# Altium schematic symbol library Schematic_Library.SchLib: 30 symbols
Pins are listed as number, name and electrical type; pins without a type are passive.

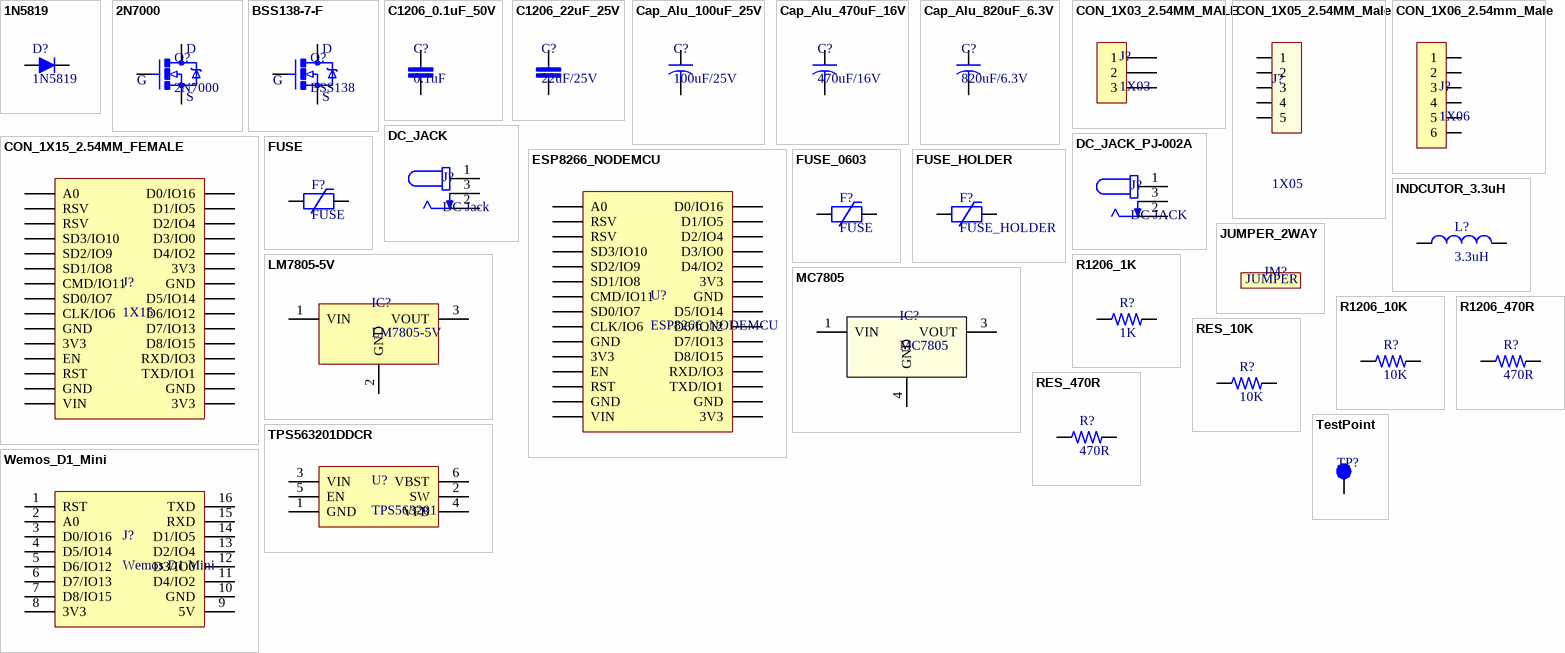
[diagram p0: symbols 1N5819 to Wemos_D1_Mini]

## 1N5819
designator D?
DIODE SCHOTTKY 40V 1A SOD123; Manufacturer 1: Diodes; Manufacturer Part Number 1: 1N5819HW-7-F; Forward Voltage: 450mV; Peak Reverse Current: 50uA; Element Configuration: Single; Max Forward Surge Current (Ifsm): 25A; Max Power Dissipation: 450mW; Polarity: Standard; Capacitance: 110pF; Supplier 1: Digi-Key; Supplier Part Number 1: 1N5819HW-FDICT-ND; Description 1: DIODE SCHOTTKY 40V 1A SOD123; Stock 1: 275973; Pricing 1: 1=0.45, 10=0.333, 100=0.1581, 500=0.12896, 1000=0.09568 (USD); Case/Package: SOD-123-2; Number of Pins: 2; Weight: 0.000353oz; Contact Plating: Tin,Matte; Min Operating Temperature: -65°C; Max Operating Temperature: 125°C; Forward Current: 1A; Max Repetitive Reverse Voltage (Vrrm): 40V; Packaging: Tape and Reel; Peak Non-Repetitive Surge Current: 25A; Package Quantity: 3000; Average Rectified Current: 1A; Termination: SMD/SMT; Voltage Rating (DC): 40V; Current Rating: 1A; Output Current: 1A; Max Reverse Voltage (DC): 40V; Length: 2.85mm; Height: 1.25mm; Width: 1.7mm; Radiation Hardening: No; REACH SVHC: No SVHC; Lead Free: Lead Free; ComponentLink1URL: http://www.diodes.com/datasheets/ds30217.pdf?src-supplier=Future+Electronics; ComponentLink1Description: http://www.diodes.com/datasheets/ds30217.pdf?src-supplier=Future+Electronics; ComponentLink2URL: https://www.diodes.com/assets/Datasheets/ds30217.pdf?src-supplier=Digi-Key; ComponentLink2Description: https://www.diodes.com/assets/Datasheets/ds30217.pdf?src-supplier=Digi-Key; ComponentLink3URL: http://www.farnell.com/datasheets/2238341.pdf?src-supplier=Element14; ComponentLink3Description: http://www.farnell.com/datasheets/2238341.pdf?src-supplier=Element14; ComponentLink4URL: http://www.jameco.com/Jameco/Products/ProdDS/1538419.pdf?src-supplier=Jameco; ComponentLink4Description: http://www.jameco.com/Jameco/Products/ProdDS/1538419.pdf?src-supplier=Jameco; ComponentLink5URL: http://www.farnell.com/datasheets/2238341.pdf?src-supplier=Avnet; ComponentLink5Description: http://www.farnell.com/datasheets/2238341.pdf?src-supplier=Avnet; ComponentLink6URL: http://www.farnell.com/datasheets/2238341.pdf?src-supplier=Avnet+Europe; ComponentLink6Description: http://www.farnell.com/datasheets/2238341.pdf?src-supplier=Avnet+Europe
footprint SOD-123
pins: 1 A, 2 C

## 2N7000
designator Q?
N-Channel 60V 200mA (Ta) 400mW (Ta) Through Hole TO-92-3; Manufacturer: ON Semiconductor / Fairchild; Drain to Source Resistance: 1.2R; Gate to Source Voltage (Vgs): 20V; Element Configuration: Single; Input Capacitance: 50pF; Number of Elements: 1; Rds On Max: 5R; Threshold Voltage: 2.1V; Turn-Off Delay Time: 10ns; Supplier 1: Digi-Key; Supplier Part Number 1: 2N7000FS-ND; Manufacturer Part Number: 2N7000; Stock 1: 10060; Pricing 1: 1=0.36, 10=0.29, 100=0.1663, 500=0.154, 1000=0.10472, 2500=0.10041, 5000=0.0924 (USD); Mount: Through Hole; Case/Package: TO-92; Number of Pins: 3; Weight: 0.201g; Contact Plating: Copper,Tin,Silver; Min Operating Temperature: -55°C; Max Operating Temperature: 150°C; Packaging: Bulk; Continuous Drain Current (ID): 200mA; Voltage Rating (DC): 60V; Current Rating: 200mA; Max Power Dissipation: 400mW; Package Quantity: 2000; Drain to Source Breakdown Voltage: 60V; Power Dissipation: 400mW; Drain to Source Voltage (Vdss): 60V; Nominal Vgs: 2.1V; On-State Resistance: 5R; Number of Channels: 1; Length: 5.2mm; Height: 5.33mm; Width: 4.19mm; Radiation Hardening: No; Lead Free: Lead Free; REACH SVHC: No SVHC; ComponentLink1URL: http://www.farnell.com/datasheets/2299562.pdf?src-supplier=Element14; ComponentLink1Description: http://www.farnell.com/datasheets/2299562.pdf?src-supplier=Element14; ComponentLink2URL: https://www.distrelec.biz/Web/Downloads/_t/ds/2n7000_eng_tds.pdf?mime=application%2Fpdf&src-supplier=Distrelec; ComponentLink2Description: https://www.distrelec.biz/Web/Downloads/_t/ds/2n7000_eng_tds.pdf?mime=application%2Fpdf&src-supplier=Distrelec; ComponentLink3URL: http://www.fairchildsemi.com/ds/ND/NDS7002A.pdf?src-supplier=Avnet+Europe; ComponentLink3Description: http://www.fairchildsemi.com/ds/ND/NDS7002A.pdf?src-supplier=Avnet+Europe; ComponentLink4URL: https://www.onsemi.com/pub/Collateral/NDS7002A-D.PDF?src-supplier=Digi-Key; ComponentLink4Description: https://www.onsemi.com/pub/Collateral/NDS7002A-D.PDF?src-supplier=Digi-Key; ComponentLink5URL: http://www.farnell.com/datasheets/2299562.pdf?src-supplier=Newark; ComponentLink5Description: http://www.farnell.com/datasheets/2299562.pdf?src-supplier=Newark; ComponentLink6URL: http://www.jameco.com/Jameco/Products/ProdDS/783594.pdf?src-supplier=Jameco; ComponentLink6Description: http://www.jameco.com/Jameco/Products/ProdDS/783594.pdf?src-supplier=Jameco; ComponentLink7URL: http://www.rapidonline.com/pdf/47-0180.pdf?src-supplier=Rapid+Electronics; ComponentLink7Description: http://www.rapidonline.com/pdf/47-0180.pdf?src-supplier=Rapid+Electronics
footprint TO-92 (TO, Flat Index; 3 In-Line, Axial Leads; Body Dia. 4.6mm; Leads 0.48 x 0.41 mm (max))
pins: 1 S, 2 G, 3 D

## BSS138-7-F
designator Q?, comment BSS138
N-Channel MOSFET 50V 200mA (Ta) 300mW (Ta) Surface Mount SOT-23-3; Manufacturer: Diodes; Manufacturer Part Number: BSS138-7-F; Nominal Vgs: 1.2V; Gate to Source Voltage (Vgs): 20V; Rds On Max: 3.5R; Input Capacitance: 50pF; Number of Elements: 1; Turn-Off Delay Time: 20ns; Element Configuration: Single; Fall Time: 25ns; Rise Time: 10ns; Supplier 1: Digi-Key; Supplier Part Number 1: BSS138-FDICT-ND; Stock 1: 1498304; Pricing 1: 1=0.2, 10=0.168, 100=0.0686, 500=0.05726, 1000=0.03978 (USD); Mount: Surface Mount; Case/Package: SOT-23; Number of Pins: 3; Weight: 0.000282oz; Contact Plating: Tin,Matte; Min Operating Temperature: -55°C; Max Operating Temperature: 150°C; Continuous Drain Current (ID): 200mA; Max Power Dissipation: 300mW; Drain to Source Voltage (Vdss): 50V; Packaging: Tape and Reel; Package Quantity: 3000; Drain to Source Breakdown Voltage: 50V; Drain to Source Resistance: 3.5R; Power Dissipation: 300mW; Turn-On Delay Time: 20ns; Threshold Voltage: 1.2V; Number of Channels: 1; Voltage Rating (DC): 50V; Current Rating: 200mA; On-State Resistance: 3.5R; Voltage: 50V; Length: 2.9mm; Height: 1mm; Width: 1.3mm; REACH SVHC: No SVHC; Lead Free: Lead Free; ComponentLink1URL: http://www.diodes.com/datasheets/BSS138.pdf?src-supplier=Avnet; ComponentLink1Description: http://www.diodes.com/datasheets/BSS138.pdf?src-supplier=Avnet; ComponentLink2URL: http://www.farnell.com/datasheets/1915619.pdf?src-supplier=Element14; ComponentLink2Description: http://www.farnell.com/datasheets/1915619.pdf?src-supplier=Element14; ComponentLink3URL: http://www.diodes.com/datasheets/BSS138.pdf?src-supplier=Avnet+Europe; ComponentLink3Description: http://www.diodes.com/datasheets/BSS138.pdf?src-supplier=Avnet+Europe; ComponentLink4URL: https://www.diodes.com/assets/Datasheets/ds30144.pdf?src-supplier=Digi-Key; ComponentLink4Description: https://www.diodes.com/assets/Datasheets/ds30144.pdf?src-supplier=Digi-Key; ComponentLink5URL: http://www.diodes.com/_files/datasheets/ds30144.pdf?src-supplier=Future+Electronics; ComponentLink5Description: http://www.diodes.com/_files/datasheets/ds30144.pdf?src-supplier=Future+Electronics
footprint SOT23-3 (SOT23, 3-Leads, Body 2.90x2.45mm, Pitch 0.95mm, IPC Medium Density)
pins: 1 G, 2 S, 3 D

## C1206_0.1uF_50V
designator C?, comment 0.1uF
0.1µF ±10% 50V Ceramic Capacitor X7R 1206 (3216 Metric); Manufacturer: Samsung; Manufacturer Part Number: CL31B104KBCNFNC; Capacitance: 100nF; Supplier 1: Digi-Key; Stock 1: 134564; Pricing 1: 1=0.12, 10=0.086, 100=0.0403, 500=0.02824, 1000=0.02338 (USD); Mount: Surface Mount; Case/Package: 1206; Case Code (Metric): 3216; Case Code (Imperial): 1206; Min Operating Temperature: -55°C; Max Operating Temperature: 125°C; Package Quantity: 1; Packaging: Tape and Reel; Tolerance: 10%; Voltage Rating: 50V; Dielectric: X7R; Length: 0.126inch; Height: 0.85mm; Width: 0.063inch; Thickness: 0.037inch; Depth: 1.6mm; Radiation Hardening: No; ComponentLink1URL: https://media.digikey.com/pdf/Data%20Sheets/Samsung%20PDFs/CL_Series_MLCC_ds.pdf?src-supplier=Digi-Key; ComponentLink1Description: https://media.digikey.com/pdf/Data%20Sheets/Samsung%20PDFs/CL_Series_MLCC_ds.pdf?src-supplier=Digi-Key; Supplier Part Number 1: 1276-2744-1-ND
footprint C1206 (Chip Capacitor, 2-Leads, Body 3.20x1.60mm, IPC Medium Density)
pins: 1, 2

## C1206_22uF_25V
designator C?, comment 22uF/25V
Cap Ceramic 22uF 25V X5R 10% SMD 1206 85C Embossed T/R; Manufacturer: Samsung; Manufacturer Part Number: CL31A226KAHNNNE; Supplier 1: Digi-Key; Supplier Part Number 1: 1276-3047-1-ND; Stock 1: 1010193; Pricing 1: 1=0.62, 10=0.439, 100=0.289, 500=0.21406, 1000=0.18195 (USD); Mount: Surface Mount; Case/Package: 1206; Case Code (Metric): 3216; Case Code (Imperial): 1206; Material: Ceramic; Contact Plating: Tin; Min Operating Temperature: -55°C; Max Operating Temperature: 85°C; Capacitance: 22uF; Tolerance: 10%; Dielectric: X5R; Package Quantity: 1; Packaging: Tape and Reel; Voltage Rating: 25V; Length: 3.2mm; Height: 1.6mm; Width: 0.063inch; Thickness: 0.071inch; Depth: 1.6mm; Radiation Hardening: No; ComponentLink1URL: https://media.digikey.com/pdf/Data%20Sheets/Samsung%20PDFs/CL_Series_MLCC_ds.pdf?src-supplier=Digi-Key; ComponentLink1Description: https://media.digikey.com/pdf/Data%20Sheets/Samsung%20PDFs/CL_Series_MLCC_ds.pdf?src-supplier=Digi-Key; ComponentLink2URL: https://www.verical.com/server-webapp/html/getDatasheet?partID=359658&src-supplier=Verical; ComponentLink2Description: https://www.verical.com/server-webapp/html/getDatasheet?partID=359658&src-supplier=Verical; ComponentLink3URL: http://www1.futureelectronics.com/doc/SAMSUNG/CL31A226KAHNNNE.pdf?src-supplier=Future+Electronics; ComponentLink3Description: http://www1.futureelectronics.com/doc/SAMSUNG/CL31A226KAHNNNE.pdf?src-supplier=Future+Electronics; ComponentLink4URL: https://produktinfo.conrad.com/datenblaetter/450000-474999/452249-da-01-en-VS_KONDENSATOR_1206.pdf?src-supplier=Conrad; ComponentLink4Description: https://produktinfo.conrad.com/datenblaetter/450000-474999/452249-da-01-en-VS_KONDENSATOR_1206.pdf?src-supplier=Conrad
footprint C1206 (Chip Capacitor, 2-Leads, Body 3.20x1.60mm, IPC Medium Density)
pins: 1, 2

## Cap_Alu_100uF_25V
designator C?, comment 100uF/25V
Aluminum Electrolytic Capacitors - Leaded 25volts 100uF 20%; Manufacturer: KEMET; Manufacturer Part Number: ESK107M025AE3EA; Voltage Rating: 25V; Ripple Current: 200mA; Life (Hours): 2000Hour; Supplier 1: Digi-Key; Supplier Part Number 1: 399-6650-1-ND; Stock 1: 187327; Pricing 1: 1=0.23, 10=0.158, 100=0.08, 500=0.05474, 1000=0.04842 (USD); Mount: Through Hole; Case/Package: Radial; Min Operating Temperature: -40°C; Max Operating Temperature: 85°C; Tolerance: 20%; Package Quantity: 2000; Packaging: Tape and Reel; Capacitance: 100uF; Voltage Rating (DC): 25V; Termination: Radial; Features: General Purpose; Length: 11mm; Lead Pitch: 0.098inch; Height - Seated (Max): 0.492inch; ComponentLink1URL: http://www.mouser.com/ds/2/212/KEM_A4004_ESK-1103206.pdf?src-supplier=Mouser; ComponentLink1Description: http://www.mouser.com/ds/2/212/KEM_A4004_ESK-1103206.pdf?src-supplier=Mouser
footprint Cap_2.5mm_6.3mm
pins: +, -

## Cap_Alu_470uF_16V
designator C?, comment 470uF/16V
470µF 16V 20% Aluminum Electrolytic Capacitors Radial, Can 8000 Hrs @ 105°C; Manufacturer: Rubycon; Manufacturer Part Number: 16ZLH470MEFC8X11.5; Dielectric Material: Aluminium; Capacitance: 470uF; Ripple Current: 945mA; Impedance: 56mR; Life (Hours): 8000Hour; Leakage Current: 3uA; Lead Diameter: 0.6mm; Supplier 1: Digi-Key; Supplier Part Number 1: 1189-1859-ND; Stock 1: 32219; Pricing 1: 1=0.4, 10=0.275, 100=0.165, 500=0.12376, 1000=0.1045, 2500=0.099, 5000=0.0935 (USD); Mount: Through Hole; Case/Package: Radial; Number of Pins: 2; Min Operating Temperature: -40°C; Max Operating Temperature: 105°C; Tolerance: 20%; Termination: Radial; Voltage Rating: 16V; Ripple Current (AC): 945mA; Voltage Rating (DC): 16V; Package Quantity: 2000; Packaging: Bulk; Voltage: 16V; Diameter: 8mm; Height: 11.5mm; Lead Pitch: 3.5mm; Height - Seated (Max): 0.512inch; Radiation Hardening: No; REACH SVHC: No SVHC; ComponentLink1URL: http://www.rubycon.co.jp/en/catalog/e_pdfs/aluminum/Radial_Lead_Alumi_Eng.pdf?src-supplier=Digi-Key; ComponentLink1Description: http://www.rubycon.co.jp/en/catalog/e_pdfs/aluminum/Radial_Lead_Alumi_Eng.pdf?src-supplier=Digi-Key; ComponentLink2URL: http://uk.rs-online.com/webdocs/0e2f/0900766b80e2f602.pdf?src-supplier=RSComponents; ComponentLink2Description: http://uk.rs-online.com/webdocs/0e2f/0900766b80e2f602.pdf?src-supplier=RSComponents; ComponentLink3URL: http://www.farnell.com/datasheets/50911.pdf?src-supplier=Element14; ComponentLink3Description: http://www.farnell.com/datasheets/50911.pdf?src-supplier=Element14
footprint Cap_3.5mm_8mm
pins: +, -

## Cap_Alu_820uF_6.3V
designator C?, comment 820uF/6.3V
820µF 6.3V 20% Aluminum Electrolytic Capacitors Radial, Can  3000 Hrs @ 105°C; Manufacturer: Nichicon; Manufacturer Part Number: UPW0J821MPD1TD; Dielectric Material: Aluminium; Capacitance: 820uF; ESR (Equivalent Series Resistance): 180mR; Ripple Current: 547.5mA; Impedance: 85mR; Life (Hours): 3000Hour; Supplier 1: Digi-Key; Supplier Part Number 1: 493-11737-1-ND; Stock 1: 116799; Pricing 1: 1=0.5, 10=0.354, 100=0.2332, 500=0.17276 (USD); Mount: Through Hole; Case/Package: Radial; Min Operating Temperature: -55°C; Max Operating Temperature: 105°C; Tolerance: 20%; Voltage Rating: 6.3V; Package Quantity: 1000; Packaging: Tape and Reel; Termination: Radial; Voltage Rating (DC): 6.3V; Diameter: 8mm; Height: 15mm; Lead Pitch: 0.138inch; Height - Seated (Max): 0.65inch; REACH SVHC: No SVHC; ComponentLink1URL: http://nichicon-us.com/english/products/pdfs/e-upw.pdf?src-supplier=Digi-Key; ComponentLink1Description: http://nichicon-us.com/english/products/pdfs/e-upw.pdf?src-supplier=Digi-Key
footprint Cap_3.5mm_8mm
pins: +, -

## CON_1X03_2.54MM_MALE
designator J?, comment 1X03
2.54mm (0.1") Pitch SIL Vertical PC Tail Pin Header, 6.1mm mating pin height, gold (hi-temp mould), 3 contacts; Manufacturer: Harwin; Manufacturer Part Number: M20-9990345; Number of Contacts: 3; Current Rating: 3A; Contact Resistance: 25mR; Voltage Rating (AC): 750V; Insulation Resistance: 10GR; Connector Type: Male Pin; Supplier 1: Digi-Key; Supplier Part Number 1: 952-2263-ND; Stock 1: 52459; Pricing 1: 1=0.18, 10=0.165, 100=0.1015, 500=0.084, 1000=0.0735, 5000=0.063, 10000=0.06125 (USD); Mount: Through Hole; Case/Package: SIL; Weight: 0.006138oz; Contact Plating: Gold; Contact Material: Brass,Bronze; Color: Black; Housing Color: Black; Housing Material: Nylon; Min Operating Temperature: -40°C; Max Operating Temperature: 105°C; Number of Rows: 1; Termination: Solder; Package Quantity: 1000; Packaging: Bulk; Max Current Rating: 3A; Number of Positions: 3; Orientation: Straight; Length: 7.62mm; Height: 0.125inch; Width: 0.25inch; Pitch: 2.54mm; Contact Mating Length: 0.24inch; Depth: 2.54mm; Radiation Hardening: No; REACH SVHC: No SVHC; ComponentLink1URL: http://uk.rs-online.com/webdocs/1406/0900766b8140689e.pdf?src-supplier=RSComponents; ComponentLink1Description: http://uk.rs-online.com/webdocs/1406/0900766b8140689e.pdf?src-supplier=RSComponents; ComponentLink2URL: http://www.harwin.com/include/downloads/drawings/M20-999.PDF?src-supplier=Avnet; ComponentLink2Description: http://www.harwin.com/include/downloads/drawings/M20-999.PDF?src-supplier=Avnet; ComponentLink3URL: http://www.mouser.com/ds/2/181/Harwin_Product_Catalog_page_206-1134556.pdf?src-supplier=Mouser; ComponentLink3Description: http://www.mouser.com/ds/2/181/Harwin_Product_Catalog_page_206-1134556.pdf?src-supplier=Mouser; ComponentLink4URL: https://cdn.harwin.com/pdfs/60page146.pdf?src-supplier=Avnet+Europe; ComponentLink4Description: https://cdn.harwin.com/pdfs/60page146.pdf?src-supplier=Avnet+Europe
footprint CON_1X03_2.54MM_MALE
pins: 1, 2, 3

## CON_1X05_2.54MM_Male
designator J?, comment 1X05
Connector Header Through Hole 5 position 0.100" (2.54mm); Manufacturer: Sullins Connector Solutions; Manufacturer Part Number: PREC005SFAN-RC; Connector Type: Header, Breakaway; Number of Positions: 5; Number of Positions Loaded: All; Style: Board to Board or Cable; Shrouding: Unshrouded; Contact Length - Mating: 0.318" (8.08mm); Contact Length - Post: 0.120" (3.05mm); Overall Contact Length: 0.537" (13.63mm); Material Flammability Rating: UL94 V-0; Current Rating: 3A per Contact; Supplier 1: Digi-Key; RoHS: RoHS Compliant; Category: Connectors, Interconnects; Stock 1: 3185; Pricing 1: 1=0.18, 10=0.165, 100=0.1359, 500=0.10744, 1000=0.09223, 5000=0.08414, 10000=0.0809 (USD); Packaging: Bulk; Part Status: Active; Contact Type: Male Pin; Pitch - Mating: 0.100" (2.54mm); Number of Rows: 1; Row Spacing - Mating: -; Mounting Type: Through Hole; Termination: Solder; Fastening Type: Push-Pull; Insulation Height: 0.098" (2.50mm); Contact Shape: Square; Contact Finish - Mating: Tin; Contact Finish Thickness - Mating: -; Contact Finish - Post: Tin; Contact Material: Brass; Insulation Material: Polybutylene Terephthalate (PBT); Features: -; Operating Temperature: -40°C ~ 105°C; Ingress Protection: -; Insulation Color: Black; Voltage Rating: -; Mated Stacking Heights: -; Contact Finish Thickness - Post: -; Applications: -; ComponentLink1URL: https://media.digikey.com/PDF/Data%20Sheets/Sullins%20PDFs/xRxCzzzSxxN-RC_ST_11635-B.pdf; ComponentLink1Description: https://media.digikey.com/PDF/Data%20Sheets/Sullins%20PDFs/xRxCzzzSxxN-RC_ST_11635-B.pdf; Supplier Part Number 1: S1212EC-05-ND
footprint 1X05_2.54mm_Male
pins: 1, 2, 3, 4, 5

## CON_1X06_2.54mm_Male
designator J?, comment 1X06
Connector Header Through Hole 6 position 0.100" (2.54mm); Manufacturer Part Number: Z-211-0611-0021-001
footprint CON_1X06_2.54MM_MALE
pins: 1, 2, 3, 4, 5, 6

## CON_1X15_2.54MM_FEMALE
designator J?, comment 1X15
15 Position Receptacle Connector  Through Hole 2.54mm; Manufacturer: Samtec; Manufacturer Part Number: SSQ-115-03-T-S; Connector Type: Receptacle,Socket; Number of Positions: 15; Gender: Female; Pitch: 0.1inch; Supplier 1: Digi-Key; Supplier Part Number 1: SAM1206-15-ND; Stock 1: 0; Pricing 1: 1=1.67, 10=1.517, 25=1.424, 50=1.3622, 100=1.3003, 250=1.17648, 500=1.0836 (USD); Mount: Through Hole; Color: Black; Contact Plating: Tin; Contact Material: Bronze; Housing Color: Black; Housing Material: Plastic; Package Quantity: 1; Number of Rows: 1; Packaging: Bulk; Termination: Solder; Number of Contacts: 15; Length: 38.6mm; Height: 8.51mm; Width: 2.41mm; Radiation Hardening: No; Lead Free: Lead Free; ComponentLink1URL: http://suddendocs.samtec.com/prints/ssq-1xx-xx-xxx-x-xx-xxx-xx-x-mkt.pdf?src-supplier=Digi-Key; ComponentLink1Description: http://suddendocs.samtec.com/prints/ssq-1xx-xx-xxx-x-xx-xxx-xx-x-mkt.pdf?src-supplier=Digi-Key
footprint ESP8266_NODEMCU (NodeMCU v2 - Lua based ESP8266 development kit)
pins: 3V3@1 3V3, 3V3@2 3V3, 3V3@3 3V3, A0, CLK CLK/IO6, CMD CMD/IO11, D0 D0/IO16, D1 D1/IO5, D2 D2/IO4, D3 D3/IO0, D4 D4/IO2, D5 D5/IO14, D6 D6/IO12, D7 D7/IO13, D8 D8/IO15, EN, GND@1 GND, GND@2 GND, GND@3 GND, GND@4 GND, RST, RSV@1 RSV, RSV@2 RSV, RXD RXD/IO3, SD0 SD0/IO7, SD1 SD1/IO8, SD2 SD2/IO9, SD3 SD3/IO10, TXD TXD/IO1, VIN

## DC_JACK
designator J?, comment DC Jack
Power Barrel Connector Jack 2.10mm ID (0.083"), 5.50mm OD (0.217") Through Hole, Right Angle; Manufacturer 1: CUI; Manufacturer Part Number 1: PJ-102A; Description 1: CONN PWR JACK 2X5.5MM SOLDER; Gender: Male; Shielding: Unshielded; Current Rating: 2.5A; Voltage Rating: 24V; Insulation Resistance: 50MR; Number of Conductors: 2; Supplier 1: Digi-Key; Supplier Part Number 1: CP-102A-ND; Stock 1: 40890; Pricing 1: 1=0.64, 10=0.6, 25=0.54, 50=0.48, 100=0.46, 250=0.42, 500=0.4, 1000=0.33, 2500=0.3 (USD); Mount: Through Hole; Color: Black; Contact Material: Copper; Contact Plating: Nickel; Housing Color: Black; Housing Material: Thermoplastic; Min Operating Temperature: -25°C; Max Operating Temperature: 85°C; Package Quantity: 280; Termination: Through Hole; Connector Type: Jack; Packaging: Bulk; Contact Gender: Male; Orientation: Horizontal; Diameter: 2.1mm; Lead Free: Lead Free; Flammability Rating: UL94 V-0; ComponentLink1URL: http://www.cui.com/Product/Resource/FuturePDF/PJ-102A.pdf?src-supplier=Future+Electronics; ComponentLink1Description: http://www.cui.com/Product/Resource/FuturePDF/PJ-102A.pdf?src-supplier=Future+Electronics; ComponentLink2URL: http://www.mouser.com/ds/2/670/PJ-102A-524195.pdf?src-supplier=Mouser; ComponentLink2Description: http://www.mouser.com/ds/2/670/PJ-102A-524195.pdf?src-supplier=Mouser; ComponentLink3URL: https://www.cui.com/product/resource/digikeypdf/pj-102a.pdf?src-supplier=Digi-Key; ComponentLink3Description: https://www.cui.com/product/resource/digikeypdf/pj-102a.pdf?src-supplier=Digi-Key
footprint CUI_PJ-102A (Power Barrel Connector Jack 2.10mm ID (0.083"), 5.50mm OD (0.217") Through Hole, Right Angle)
pins: 1, 2, 3

## DC_JACK_PJ-002A
designator J?, comment DC JACK
Power Barrel Connector Jack 2.10mm ID (0.083"), 5.50mm OD (0.217") Through Hole, Right Angle; Manufacturer: CUI; Manufacturer Part Number: PJ-002A; Gender: Male; Shielding: Unshielded; Current Rating: 2.5A; Number of Conductors: 2; Voltage Rating: 24V; Insulation Resistance: 50MR; Supplier 1: Digi-Key; Supplier Part Number 1: CP-002A-ND; Stock 1: 57905; Pricing 1: 1=0.6, 10=0.558, 25=0.5024, 50=0.4464, 100=0.4278, 250=0.3906, 500=0.372, 1000=0.3069, 2500=0.279 (USD); Mount: Through Hole; Color: Black; Contact Material: Copper Alloy,Copper; Contact Plating: Tin,Nickel; Housing Material: Thermoplastic; Housing Color: Black; Min Operating Temperature: -25°C; Max Operating Temperature: 85°C; Connector Type: Jack; Termination: Through Hole; Packaging: Bulk; Package Quantity: 500; Orientation: Horizontal; Contact Gender: Male; Diameter: 2.1mm; Lead Free: Lead Free; Flammability Rating: UL94 V-0
footprint CUI_PJ-002A (Power Barrel Connector Jack 2.10mm ID (0.083"), 5.50mm OD (0.217") Through Hole, Right Angle)
pins: 1, 2, 3

## ESP8266_NODEMCU
designator U?
NodeMCU v2 - Lua based ESP8266 development kit
footprint ESP8266_NODEMCU (NodeMCU v2 - Lua based ESP8266 development kit)
pins: 3V3@1 3V3, 3V3@2 3V3, 3V3@3 3V3, A0, CLK CLK/IO6, CMD CMD/IO11, D0 D0/IO16, D1 D1/IO5, D2 D2/IO4, D3 D3/IO0, D4 D4/IO2, D5 D5/IO14, D6 D6/IO12, D7 D7/IO13, D8 D8/IO15, EN, GND@1 GND, GND@2 GND, GND@3 GND, GND@4 GND, RST, RSV@1 RSV, RSV@2 RSV, RXD RXD/IO3, SD0 SD0/IO7, SD1 SD1/IO8, SD2 SD2/IO9, SD3 SD3/IO10, TXD TXD/IO1, VIN

## FUSE
designator F?
16V 10A 2920 PTC Resettable Fuses RoHS; Manufacturer Part Number: SMD2920P500TF/16
footprint FUSE-SMD_L8.0-W5.4
pins: 1, 2

## FUSE_0603
designator F?, comment FUSE
5A 32V AC 32V DC Fuse Board Mount (Cartridge Style Excluded) Surface Mount 0603 (1608 Metric); Manufacturer: Littelfuse; Manufacturer Part Number: 0467005.NRHF; DC Cold Resistance: 8.9mR; Power Dissipation: 363.5mW; Approvals: UL,CSA; Supplier 1: Digi-Key; Supplier Part Number 1: F5701CT-ND; Stock 1: 1386; Pricing 1: 1=1.2, 5=1.166, 10=1.091, 50=0.9028, 100=0.7524, 250=0.7336, 500=0.62074, 1000=0.54549 (USD); Mount: Surface Mount; Case/Package: 0603; Case Code (Metric): 1608; Case Code (Imperial): 0603; Min Operating Temperature: -55°C; Max Operating Temperature: 90°C; Package Quantity: 5000; Current Rating: 5A; Voltage Rating (AC): 32V; Voltage Rating (DC): 32V; Packaging: Tape and Reel; Composition: Thin Film; Current: 5A; Fuse Type: Board Mount (Cartridge Style Excluded); Length: 1.6mm; Height: 0.012inch; Width: 0.032inch; Depth: 0.81mm; ComponentLink1URL: http://www.littelfuse.com/~/media/electronics/datasheets/fuses/littelfuse_fuse_467_datasheet.pdf.pdf?src-supplier=Digi-Key; ComponentLink1Description: http://www.littelfuse.com/~/media/electronics/datasheets/fuses/littelfuse_fuse_467_datasheet.pdf.pdf?src-supplier=Digi-Key
footprint FUSE_0603
pins: 1, 2

## FUSE_HOLDER
designator F?
Fuse Block 30A 500V 1 Circuit Blade Through Hole; Manufacturer: Keystone Electronics; Manufacturer Part Number: 3557-2; Color: Black; Material: Brass,Tin,Nylon; Current Rating: 20A; Number of Poles: 1; Illumination Type: Illuminated; Fuse Type: Automotive; Supplier 1: Digi-Key; Stock 1: 152265; Pricing 1: 1=1.03, 10=0.904, 25=0.8512, 100=0.8089, 250=0.7732, 500=0.7137, 1000=0.6352, 2500=0.5319, 5000=0.5111 (USD); Mount: Vertical,PCB; Contact Plating: Tin; Contact Material: Brass; Min Operating Temperature: -50°C; Max Operating Temperature: 145°C; Termination: PC Pin; Package Quantity: 1; Orientation: Vertical; Voltage Rating (AC): 500V; Number of Circuits: 1; Voltage: 500V; Fuse Current: 20A; Length: 19.8mm; Depth: 6.8mm; REACH SVHC: No SVHC; Lead Free: Lead Free; Flammability Rating: UL94 V-0; ComponentLink1URL: http://www.keyelco.com/userAssets/file/M60-2p39.pdf?src-supplier=Future+Electronics; ComponentLink1Description: http://www.keyelco.com/userAssets/file/M60-2p39.pdf?src-supplier=Future+Electronics; ComponentLink2URL: http://www.farnell.com/datasheets/1686040.pdf?src-supplier=Element14; ComponentLink2Description: http://www.farnell.com/datasheets/1686040.pdf?src-supplier=Element14; Supplier Part Number 1: 36-3557-2-ND
footprint FUSE_STAND_3557-2
pins: 1, 2 1, 3, 4 2

## INDCUTOR_3.3uH
designator L?, comment 3.3uH
3.3µH Shielded Wirewound Inductor 2.02A 96mOhm Max Nonstandard; Manufacturer: TDK; Manufacturer Part Number: VLCF5020T-3R3N2R0-1; Core Material: Ferrite; Tolerance: 30%; DC Resistance (DCR): 96mR; Test Frequency: 100kHz; Supplier 1: Digi-Key; Supplier Part Number 1: 445-3206-1-ND; Stock 1: 166; Pricing 1: 1=0.97, 10=0.845, 100=0.6038 (USD); Mount: Surface Mount; Case/Package: Nonstandard; Number of Pins: 2; Min Operating Temperature: -40°C; Max Operating Temperature: 105°C; Inductance: 3.3uH; Packaging: Tape and Reel; Inductance Tolerance: 30%; Package Quantity: 500; Current Rating: 2.02A; Saturation Current: 2.02A; Shielding: Shielded; Composition: Wirewound; Max DC Current: 2.02A; Termination: SMD/SMT; RMS Current (Irms): 2.02A; DC Current: 2.02A; Military Standard: Not; Length: 0.197inch; Height: 2mm; Depth: 5.2mm; Width: 0.197inch; Height - Seated (Max): 0.079inch; REACH SVHC: Unknown; Lead Free: Lead Free; ComponentLink1URL: http://www.farnell.com/datasheets/516785.pdf?src-supplier=Element14; ComponentLink1Description: http://www.farnell.com/datasheets/516785.pdf?src-supplier=Element14; ComponentLink2URL: http://www.farnell.com/datasheets/516785.pdf?src-supplier=Farnell; ComponentLink2Description: http://www.farnell.com/datasheets/516785.pdf?src-supplier=Farnell; ComponentLink3URL: http://uk.rs-online.com/webdocs/1538/0900766b81538dbe.pdf?src-supplier=RSComponents; ComponentLink3Description: http://uk.rs-online.com/webdocs/1538/0900766b81538dbe.pdf?src-supplier=RSComponents; ComponentLink4URL: http://www.onlinecomponents.com/productFiles/mf-TDK/e531_vlcf5020_1.pdf?src-supplier=Onlinecomponents.com; ComponentLink4Description: http://www.onlinecomponents.com/productFiles/mf-TDK/e531_vlcf5020_1.pdf?src-supplier=Onlinecomponents.com
footprint IND_5X5
pins: 1, 2

## JUMPER_2WAY
designator JM?  (value not drawn)
2 (1 x 2) Position Shunt Connector Black Open Top 0.100" (2.54mm) Gold; Manufacturer: Harwin; Manufacturer Part Number: M7582-05; Number of Contacts: 2; Max Current Rating: 1A; Contact Resistance: 20mR; Insulation Resistance: 5GR; Supplier 1: Digi-Key; Supplier Part Number 1: 952-2881-ND; Stock 1: 25154; Pricing 1: 1=0.19, 10=0.174, 25=0.1296, 50=0.111, 100=0.1073, 250=0.09252, 500=0.0888, 1000=0.0777, 2500=0.0703 (USD); Contact Plating: Gold; Housing Color: Black; Contact Material: Bronze; Color: Black; Material: Nickel; Plating: Gold; Housing Material: Polybutylene; Min Operating Temperature: -55°C; Max Operating Temperature: 105°C; Number of Rows: 1; Package Quantity: 5000; Packaging: Bulk; Contact Gender: Female; Current Rating: 1A; Number of Positions: 2; Orientation: Straight; Length: 5mm; Height: 0.236inch; Pitch: 2.54mm; Depth: 2.4mm; Radiation Hardening: No; Flammability Rating: UL94 V-0; ComponentLink1URL: https://www.verical.com/server-webapp/html/getDatasheet?partID=412516&src-supplier=Verical; ComponentLink1Description: https://www.verical.com/server-webapp/html/getDatasheet?partID=412516&src-supplier=Verical
text: JUMPER

## LM7805-5V
designator IC?
Linear Voltage Regulator IC 5V 1A TO220-3; Manufacturer: Texas Instruments; Manufacturer Part Number: LM7805CT/NOPB; Number of Outputs: 1; Max Input Voltage: 35V; Polarity: Positive; Accuracy: 2%; Output Type: Fixed; Dropout Voltage: 2V; Quiescent Current: 8mA; Min Input Voltage: 10V; Supplier 1: Digi-Key; Supplier Part Number 1: 296-47192-ND; Stock 1: 7628; Pricing 1: 1=1.54, 10=1.381, 25=1.3024, 100=1.042, 250=0.91176, 500=0.8857, 1000=0.70335, 2500=0.6773, 5000=0.65125 (USD); Mount: Through Hole; Case/Package: TO-220; Number of Pins: 3; Min Operating Temperature: 0°C; Max Operating Temperature: 125°C; Output Voltage: 5V; Max Output Current: 1A; Packaging: Rail/Tube; Output Current: 1A; Package Quantity: 45; Number of Regulators: 1; Output Voltage Accuracy: 2%; Length: 10.16mm; Height: 8.89mm; Width: 4.7mm; Radiation Hardening: No; Lead Free: Contains Lead; ComponentLink1URL: http://www.jameco.com/Jameco/Products/ProdDS/902071.pdf?src-supplier=Jameco; ComponentLink1Description: http://www.jameco.com/Jameco/Products/ProdDS/902071.pdf?src-supplier=Jameco; ComponentLink2URL: http://www.ti.com/lit/ds/symlink/lm7805c.pdf?src-supplier=Digi-Key; ComponentLink2Description: http://www.ti.com/lit/ds/symlink/lm7805c.pdf?src-supplier=Digi-Key; ComponentLink3URL: http://www.ti.com/general/docs/lit/getliterature.tsp?genericPartNumber=LM7815C&&fileType=pdf&src-supplier=Avnet; ComponentLink3Description: http://www.ti.com/general/docs/lit/getliterature.tsp?genericPartNumber=LM7815C&&fileType=pdf&src-supplier=Avnet
footprint TO-220-3
pins: 1 VIN, 2 GND, 3 VOUT

## MC7805
designator IC?
Linear Voltage Regulator IC Positive Fixed 5V & 1A DPAK; Manufacturer 1: ON Semiconductor; Manufacturer Part Number 1: MC7805CDTRKG; Description 1: IC REG LINEAR 5V 1A DPAK-3; Max Input Voltage: 35V; Min Input Voltage: 10V; Dropout Voltage: 2V; Number of Outputs: 1; Quiescent Current: 3.2mA; Max Output Voltage: 5.2V; Output Voltage Accuracy: 4%; Power Supply Rejection Ratio (PSRR): 83dB; Supplier 1: Digi-Key; Supplier Part Number 1: MC7805CDTRKGOSCT-ND; Stock 1: 3613; Pricing 1: 1=0.54, 10=0.464, 25=0.4332, 100=0.3219, 250=0.2724, 500=0.26, 1000=0.19191 (USD); Mount: Surface Mount; Case/Package: DPAK; Number of Pins: 3; Contact Plating: Tin,Matte; Min Operating Temperature: 0°C; Max Operating Temperature: 125°C; Output Current: 1A; Nominal Output Voltage: 5V; Packaging: Tape and Reel; Package Quantity: 1; Max Output Current: 1A; Output Voltage: 5V; Number of Regulators: 1; Polarity: Positive; Min Output Voltage: 5V; Accuracy: 4%; Output Type: Fixed; Length: 6.73mm; Height: 2.38mm; Width: 6.22mm; Radiation Hardening: No; REACH SVHC: No SVHC; Lead Free: Lead Free; Halogen Free: Halogen Free; ComponentLink1URL: http://www.onsemi.com/pub/Collateral/MC7800-D.PDF?src-supplier=Digi-Key; ComponentLink1Description: http://www.onsemi.com/pub/Collateral/MC7800-D.PDF?src-supplier=Digi-Key; ComponentLink2URL: http://www.onsemi.com/pub/Collateral/MC7800-D.PDF?src-supplier=Avnet; ComponentLink2Description: http://www.onsemi.com/pub/Collateral/MC7800-D.PDF?src-supplier=Avnet
footprint DPAK-3 (D-PAK, 3-Pads, Body 6.20x6.72mm (max), IPC Medium Density)
pins: 1 VIN, 3 VOUT, 4 GND

## R1206_1K
designator R?, comment 1K
1 kOhms ±1% 0.25W, 1/4W Chip Resistor 1206 (3216 Metric) Automotive AEC-Q200, Moisture Resistant Thick Film; Manufacturer: Yageo; Manufacturer Part Number: AC1206FR-071KL; Voltage Rating: 200V; Power Rating: 250mW; Resistance: 1kR; Temperature Coefficient: 100ppm/°C; Supplier 1: Digi-Key; Supplier Part Number 1: YAG3829CT-ND; Stock 1: 469087; Pricing 1: 1=0.1, 10=0.077, 100=0.0296, 1000=0.01302, 2500=0.01125 (USD); Case/Package: 1206; Weight: 0.000571oz; Case Code (Imperial): 1206; Case Code (Metric): 3016; Min Operating Temperature: -55°C; Max Operating Temperature: 155°C; Packaging: Tape and Reel; Tolerance: 1%; Composition: Thick Film; Number of Terminations: 2; Termination: SMD/SMT; Max Power Dissipation: 250mW; Features: Moisture Resistant,Automotive AEC-Q200; Length: 0.122inch; Height: 0.026inch; Width: 0.063inch; ComponentLink1URL: http://www.yageo.com/NewPortal/yageodocoutput?fileName=/pdf/R-Chip/PYu-AC_51_RoHS_L_6.pdf&src-supplier=Digi-Key; ComponentLink1Description: http://www.yageo.com/NewPortal/yageodocoutput?fileName=/pdf/R-Chip/PYu-AC_51_RoHS_L_6.pdf&src-supplier=Digi-Key; ComponentLink2URL: http://www.mouser.com/ds/2/447/yageodocoutput-1111992.pdf?src-supplier=Mouser; ComponentLink2Description: http://www.mouser.com/ds/2/447/yageodocoutput-1111992.pdf?src-supplier=Mouser
footprint R1206 (Chip Resistor, 2-Leads, Body 3.20x1.60mm, IPC Medium Density)
pins: 1, 2

## R1206_10K
designator R?, comment 10K
10 kOhms ±5% 0.25W, 1/4W Chip Resistor 1206 (3216 Metric) Moisture Resistant Thick Film; Manufacturer: Yageo; Manufacturer Part Number: RC1206JR-0710KL; Resistance: 10kR; Temperature Coefficient: 100ppm/°C; Power Rating: 250mW; Voltage Rating: 200V; Supplier 1: Digi-Key; Supplier Part Number 1: 311-10KERCT-ND; Stock 1: 5252312; Pricing 1: 1=0.1, 10=0.061, 100=0.0249, 1000=0.01118, 2500=0.00971 (USD); Case/Package: 1206; Case Code (Imperial): 1206; Case Code (Metric): 3216; Min Operating Temperature: -55°C; Max Operating Temperature: 155°C; Composition: Thick Film; Tolerance: 5%; Packaging: Tape and Reel; Package Quantity: 5000; Termination: SMD/SMT; Number of Terminations: 2; Military Standard: Not; Max Power Dissipation: 250mW; Working Voltage: 200V; Length: 0.122inch; Height: 0.026inch; Width: 0.063inch; Depth: 1.6mm; REACH SVHC: Unknown; Lead Free: Lead Free; ComponentLink1URL: http://www.farnell.com/datasheets/444357.pdf?src-supplier=Element14; ComponentLink1Description: http://www.farnell.com/datasheets/444357.pdf?src-supplier=Element14; ComponentLink2URL: http://www.yageo.com/documents/recent/PYu-RC_Group_51_RoHS_L_10.pdf?src-supplier=Digi-Key; ComponentLink2Description: http://www.yageo.com/documents/recent/PYu-RC_Group_51_RoHS_L_10.pdf?src-supplier=Digi-Key; ComponentLink3URL: https://produktinfo.conrad.com/datenblaetter/400000-424999/402664-da-01-en-SMD_Widerstand_Chip1206_10_kOhm.pdf?src-supplier=Conrad; ComponentLink3Description: https://produktinfo.conrad.com/datenblaetter/400000-424999/402664-da-01-en-SMD_Widerstand_Chip1206_10_kOhm.pdf?src-supplier=Conrad
footprint R1206 (Chip Resistor, 2-Leads, Body 3.20x1.60mm, IPC Medium Density)
pins: 1, 2

## R1206_470R
designator R?, comment 470R
RES SMD 470 OHM 1% 1/4W 1206; Manufacturer: Yageo; Manufacturer Part Number: RC1206FR-07470RL; Power Rating: 250mW; Temperature Coefficient: 100ppm/°C; Voltage Rating: 200V; Supplier 1: Digi-Key; Supplier Part Number 1: 311-470FRCT-ND; Stock 1: 2038246; Pricing 1: 1=0.1, 10=0.071, 100=0.0291, 1000=0.01306, 2500=0.01134 (USD); Case/Package: 1206; Case Code (Imperial): 1206; Case Code (Metric): 3216; Min Operating Temperature: -55°C; Max Operating Temperature: 155°C; Resistance: 470R; Tolerance: 1%; Packaging: Tape and Reel; Composition: Thick Film; Termination: SMD/SMT; Military Standard: Not; Length: 3.1mm; Height: 0.55mm; Depth: 1.6mm; REACH SVHC: Unknown; Lead Free: Lead Free; ComponentLink1URL: http://www.farnell.com/datasheets/2167052.pdf?src-supplier=Element14; ComponentLink1Description: http://www.farnell.com/datasheets/2167052.pdf?src-supplier=Element14; ComponentLink2URL: http://www.yageo.com/documents/recent/PYu-RC1206_51_RoHS_L-4.pdf?src-supplier=Future+Electronics; ComponentLink2Description: http://www.yageo.com/documents/recent/PYu-RC1206_51_RoHS_L-4.pdf?src-supplier=Future+Electronics
footprint R1206 (Chip Resistor, 2-Leads, Body 3.20x1.60mm, IPC Medium Density)
pins: 1, 2

## RES_10K
designator R?, comment 10K
10 kOhms ±1% 0.25W, 1/4W Through Hole Resistor Axial Flame Retardant Coating, Safety Metal Film; Manufacturer: Stackpole Electronics; Manufacturer Part Number: RNF14FTD10K0; Resistance: 10kR; Power Rating: 250mW; Temperature Coefficient: 100ppm/°C; Supplier 1: Digi-Key; Supplier Part Number 1: RNF14FTD10K0CT-ND; Stock 1: 51262; Pricing 1: 1=0.1, 10=0.072, 25=0.0496, 50=0.0386, 100=0.0275, 250=0.02144, 500=0.01706, 1000=0.0121 (USD); Mount: Through Hole,Axial; Case/Package: Conformal; Contact Plating: Copper,Tin; Min Operating Temperature: -55°C; Max Operating Temperature: 155°C; Tolerance: 1%; Packaging: Tape and Reel; Composition: Metal Film; Number of Terminations: 2; Max Power Dissipation: 250mW; Features: Flame Retardant Coating; Package Quantity: 1; Military Standard: Not; Termination: Axial; Diameter: 2.35mm; Length: 6.35mm; Lead Free: Lead Free; ComponentLink1URL: https://www.seielect.com/Catalog/SEI-RNF_RNMF.pdf?src-supplier=Digi-Key; ComponentLink1Description: https://www.seielect.com/Catalog/SEI-RNF_RNMF.pdf?src-supplier=Digi-Key; ComponentLink2URL: http://www.seielect.com/Catalog/SEI-RNF_RNMF.pdf?src-supplier=Future+Electronics; ComponentLink2Description: http://www.seielect.com/Catalog/SEI-RNF_RNMF.pdf?src-supplier=Future+Electronics; ComponentLink3URL: https://www.verical.com/server-webapp/html/getDatasheet?partID=359922&src-supplier=Verical; ComponentLink3Description: https://www.verical.com/server-webapp/html/getDatasheet?partID=359922&src-supplier=Verical; ComponentLink4URL: https://www.seielect.com/Catalog/SEI-RNF_RNMF.pdf?src-supplier=Avnet; ComponentLink4Description: https://www.seielect.com/Catalog/SEI-RNF_RNMF.pdf?src-supplier=Avnet
footprint Resistor_7.62mm
pins: 1, 2

## RES_470R
designator R?, comment 470R
470 Ohms ±1% 0.25W, 1/4W Through Hole Resistor Axial Flame Retardant Coating, Safety Metal Film; Manufacturer: Stackpole Electronics; Manufacturer Part Number: RNMF14FTC470R; Max Power Dissipation: 250mW; Temperature Coefficient: 50ppm/°C; Supplier 1: Digi-Key; Supplier Part Number 1: S470CACT-ND; Stock 1: 43149; Pricing 1: 1=0.1, 10=0.072, 25=0.052, 50=0.0396, 100=0.0292, 250=0.02228, 500=0.01782, 1000=0.01312 (USD); Case/Package: Axial; Min Operating Temperature: -55°C; Max Operating Temperature: 155°C; Package Quantity: 1; Resistance: 470R; Tolerance: 1%; Packaging: Tape and Reel; Composition: Metal Film; Number of Terminations: 2; Features: Flame Retardant Coating; Length: 0.13inch; ComponentLink1URL: https://www.seielect.com/catalog/SEI-Packaging.pdf?src-supplier=Digi-Key; ComponentLink1Description: https://www.seielect.com/catalog/SEI-Packaging.pdf?src-supplier=Digi-Key
footprint Resistor_7.62mm
pins: 1, 2

## TestPoint
designator TP?  (value not drawn)  (no BOM)
Test Point
footprint TestPoint
pins: 1 1 

## TPS563201DDCR
designator U?, comment TPS563201
Conv DC-DC 4.5V to 17V Synchronous Step Down Single-Out 0.76V to 7V 3A 6-Pin TSOT-23 T/R; Manufacturer: Texas Instruments; Manufacturer Part Number: TPS563201DDCR; Number of Outputs: 1; Min Output Voltage: 768mV; Switching Frequency: 580kHz; Synchronous Rectifier: Yes; Quiescent Current: 400uA; Output Type: Adjustable; Output Configuration: Positive; Supplier 1: Digi-Key; Supplier Part Number 1: 296-47238-1-ND; Stock 1: 4931; Pricing 1: 1=0.84, 10=0.747, 100=0.5448, 500=0.45608, 1000=0.35473 (USD); Mount: Surface Mount; Case/Package: SOT-23-6; Number of Pins: 6; Min Operating Temperature: -40°C; Max Operating Temperature: 125°C; Packaging: Tape and Reel; Min Input Voltage: 4.5V; Max Input Voltage: 17V; Max Output Voltage: 7V; Output Current: 3A; Lead Free: Lead Free; ComponentLink1URL: http://www.ti.com/lit/ds/symlink/tps563201.pdf?src-supplier=Digi-Key; ComponentLink1Description: http://www.ti.com/lit/ds/symlink/tps563201.pdf?src-supplier=Digi-Key; ComponentLink2URL: http://www.ti.com/general/docs/suppproductinfo.tsp?distId=10&amp;gotoUrl=http%3A%2F%2Fwww.ti.com%2Flit%2Fgpn%2Ftps563201&src-supplier=Digi-Key; ComponentLink2Description: http://www.ti.com/general/docs/suppproductinfo.tsp?distId=10&amp;gotoUrl=http%3A%2F%2Fwww.ti.com%2Flit%2Fgpn%2Ftps563201&src-supplier=Digi-Key; ComponentLink3URL: http://www.ti.com/lit/gpn/tps563201?src-supplier=Mouser; ComponentLink3Description: http://www.ti.com/lit/gpn/tps563201?src-supplier=Mouser
footprint SOT23-6 (SOT23, 5-Leads, Body 2.90x2.80mm, Pitch 0.95mm, IPC Low Density)
pins: 1 GND, 2 SW, 3 VIN, 4 VFB, 5 EN, 6 VBST

## Wemos_D1_Mini
designator J?, comment Wemos D1 Mini
Wemos D1 Mini Wireless WIFI Internet of Things Development Board Based ESP8266 CH340 CH340G 4MB For Arduino Nodemcu V2 V3.0 3.0
footprint WEMOS_D1_MINI
pins: 1 RST, 2 A0, 3 D0/IO16, 4 D5/IO14, 5 D6/IO12, 6 D7/IO13, 7 D8/IO15, 8 3V3, 9 5V, 10 GND, 11 D4/IO2, 12 D3/IO0, 13 D2/IO4, 14 D1/IO5, 15 RXD, 16 TXD